# EAGLE library part LM2577 (library Regulator_TI)
National Semiconductor <http://www.national.com> 3.0A Step-Up "Simple Switcher"(c) 3.0A 65V NPN switch, step-up regulator
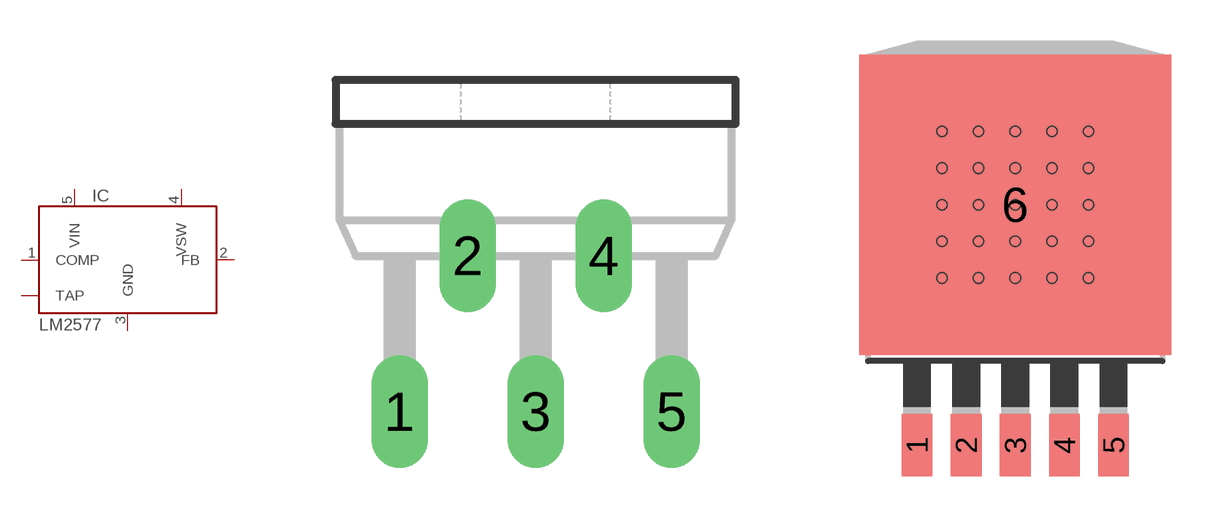
[diagram p15: symbol with the pads of TO220-5; footprints TO220-5, TO263-5]

Designator prefix IC

## LM2577T  [TO220-5]
1  COMP  pas
2  FB  in
3  GND  pwr
4  VSW
5  VIN  pwr

## LM2577S  [TO263-5]
1  COMP  pas
2  FB  in
3  GND  pwr
4  VSW
5  VIN  pwr
6  TAP

## LM2577N  [DIL16]
3  COMP  pas
4  FB  in
6  VSW
8  VIN  pwr
14  GND  pwr

## LM2577M  [SO24W]
2  COMP  pas
3  FB  in
7  VSW
8  VIN  pwr
12  GND  pwr

## LM2577K  [TO3-4]
1  COMP  pas
2  FB  in
3  VSW
4  VIN  pwr
5  GND  pwr

## Footprint TO220-5 (pad centres in mm)
TO220-5
drill 0.9 long: 1 -3.4,-8.4; 2 -1.7,-4.5; 3 0,-8.4; 4 1.7,-4.5; 5 3.4,-8.4

## Footprint TO263-5 (pad centres in mm)
TO-263
smd 1.067 x 2.159: 1 -3.404,-5.791; 2 -1.702,-5.791; 3 0,-5.791; 4 1.702,-5.791; 5 3.404,-5.791
smd 10.8 x 10.41: 6 0,2.54
hole 0.35 at -2.54,5.08
hole 0.35 at -1.27,5.08
hole 0.35 at 0,5.08
hole 0.35 at 1.27,5.08
hole 0.35 at 2.54,5.08
hole 0.35 at 2.54,3.81
hole 0.35 at 1.27,3.81
hole 0.35 at 0,3.81
hole 0.35 at -1.27,3.81
hole 0.35 at -2.54,3.81
hole 0.35 at -2.54,2.54
hole 0.35 at -1.27,2.54
hole 0.35 at 0,2.54
hole 0.35 at 1.27,2.54
hole 0.35 at 2.54,2.54
hole 0.35 at 2.54,1.27
hole 0.35 at 1.27,1.27
hole 0.35 at 0,1.27
hole 0.35 at -1.27,1.27
hole 0.35 at -2.54,1.27
hole 0.35 at -2.54,0
hole 0.35 at -1.27,0
hole 0.35 at 0,0
hole 0.35 at 1.27,0
hole 0.35 at 2.54,0

## Footprint DIL16 (pad centres in mm)
Dual In Line Package
drill 0.813 long: 1 -8.89,-3.81; 2 -6.35,-3.81; 3 -3.81,-3.81; 4 -1.27,-3.81; 5 1.27,-3.81; 6 3.81,-3.81; 7 6.35,-3.81; 8 8.89,-3.81; 9 8.89,3.81; 10 6.35,3.81; 11 3.81,3.81; 12 1.27,3.81; 13 -1.27,3.81; 14 -3.81,3.81; 15 -6.35,3.81; 16 -8.89,3.81

## Footprint SO24W (pad centres in mm)
SMALL OUTLINE INTEGRATED CIRCUIT wide body 7.5 mm/JEDEC MO-119AA
smd 0.6 x 2.2: 1 -6.985,-4.6; 2 -5.715,-4.6; 3 -4.445,-4.6; 4 -3.175,-4.6; 5 -1.905,-4.6; 6 -0.635,-4.6; 7 0.635,-4.6; 8 1.905,-4.6; 9 3.175,-4.6; 10 4.445,-4.6; 11 5.715,-4.6; 12 6.985,-4.6; 13 6.985,4.6; 14 5.715,4.6; 15 4.445,4.6; 16 3.175,4.6; 17 1.905,4.6; 18 0.635,4.6; 19 -0.635,4.6; 20 -1.905,4.6; 21 -3.175,4.6; 22 -4.445,4.6; 23 -5.715,4.6; 24 -6.985,4.6

## Footprint TO3-4 (pad centres in mm)
VOLTAGE REGULATOR
drill 1.194 pad 3.81 octagon: 1 -2.159,-5.461; 2 4.902,-3.531; 3 4.902,3.531; 4 -2.159,5.461
drill 4.115 pad 6.477: 5 15.113,0; TO3/5 -15.113,0